# EAGLE library part TMC2209 (library Public)
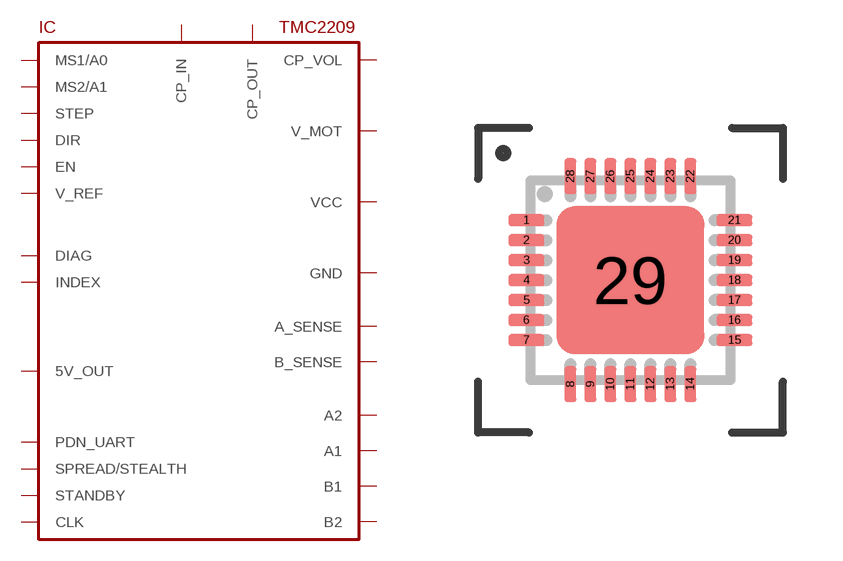
[diagram p70: symbol with the pads of QFN28-0.5; footprint QFN28-0.5]

Designator prefix IC

## TMC2209  [QFN28-0.5]
1  B2
2  EN
3  GND
4  CP_OUT
5  CP_IN
6  CP_VOL
7  SPREAD/STEALTH
8  5V_OUT
9  MS1/A0
10  MS2/A1
11  DIAG
12  INDEX
13  CLK
14  PDN_UART
15  VCC
16  STEP
17  V_REF
18  GND
19  DIR
20  STANDBY
21  A2
22  V_MOT
23  A_SENSE
24  A1
26  B1
27  B_SENSE
28  V_MOT
29  GND

## Footprint QFN28-0.5 (pad centres in mm)
smd 0.9 x 0.3: 1 -2.6,1.5; 2 -2.6,1; 3 -2.6,0.5; 4 -2.6,0; 5 -2.6,-0.5; 6 -2.6,-1; 7 -2.6,-1.5; 15 2.6,-1.5; 16 2.6,-1; 17 2.6,-0.5; 18 2.6,0; 19 2.6,0.5; 20 2.6,1; 21 2.6,1.5
smd 0.3 x 0.9: 8 -1.5,-2.6; 9 -1,-2.6; 10 -0.5,-2.6; 11 0,-2.6; 12 0.5,-2.6; 13 1,-2.6; 14 1.5,-2.6; 22 1.5,2.6; 23 1,2.6; 24 0.5,2.6; 25 0,2.6; 26 -0.5,2.6; 27 -1,2.6; 28 -1.5,2.6
smd 3.7 x 3.7: 29 0,0